# Altium footprint library Passive PCB.PcbLib: 33 footprints (part 1 of 3)
Each footprint in its own frame and in the unit in brackets; x right, y up, seen from the top. Pads: shape width x height; smd on the part's side, far side on the other; paste and mask are expansions set on the pad; w line width, h text height; cw(c..) or ccw(c..) is an arc to the next point about the centre after c.
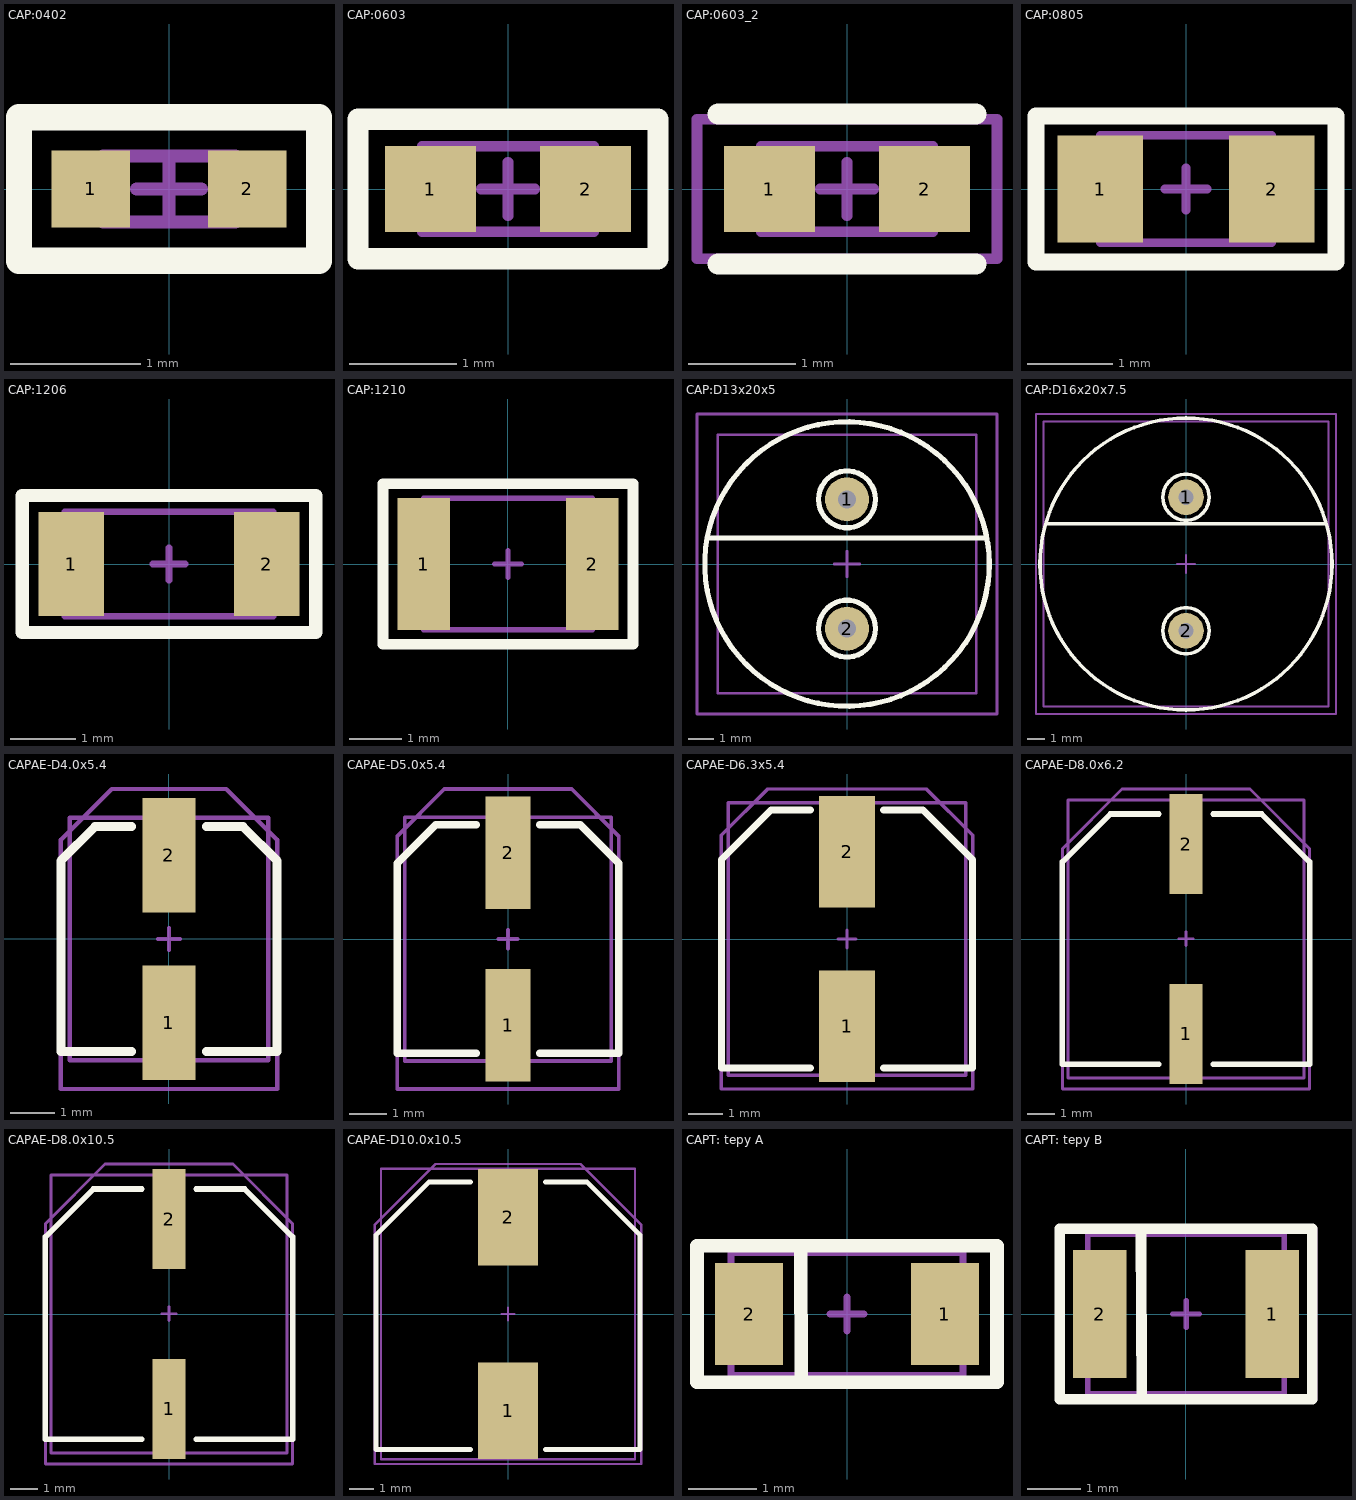
[diagram p0: the footprints below, top view; thin cyan lines are the x and y axes]

## CAP:0402 [mm]
pads (2):
  rect 0.6x0.59 smd: 1(-0.6,0) 2(0.6,0)
Top Overlay:
  lines w0.2: -1.15,-0.55 -1.15,0.55 1.15,0.55 1.15,-0.55 -1.15,-0.55
Top Assy:
  lines w0.1: -0.507,-0.254 0.508,-0.254 0.508,0.254 ; -0.508,-0.254 -0.508,0.254 ; -0.508,-0.254 -0.507,-0.254 ; -0.508,0.254 -0.507,0.254 ; -0.507,0.254 0.508,0.254 ; 0.508,0.254 0.508,0.254
Border:
  lines w0.1: -0.25,0 0.25,0 ; 0,-0.25 0,0.25 ; -1.15,-0.55 -1.15,0.55 1.15,0.55 1.15,-0.55 -1.15,-0.55
3D body "Ceramic_Capacitor_0402_h20mil.step": height 0.52, standoff 0.01, extent -0.508,-0.254 0.508,0.254

## CAP:0603 [mm]
pads (2):
  rect 0.85x0.8 smd: 1(-0.725,0) 2(0.725,0)
Top Overlay:
  lines w0.2: -1.4,-0.65 -1.4,0.65 1.4,0.65 1.4,-0.65 -1.4,-0.65
Top Assy:
  lines w0.1: -0.8,-0.4 -0.8,0.4 0.8,0.4 0.8,-0.4 -0.8,-0.4
Border:
  lines w0.1: -0.25,0 0.25,0 ; 0,-0.25 0,0.25 ; -1.4,-0.65 -1.4,0.65 1.4,0.65 1.4,-0.65 -1.4,-0.65
3D body "Ceramic_Capacitor_0603_h32mil.step": height 0.81, standoff 0.01, extent -0.8,-0.4 0.8,0.4

## CAP:0603_2 [mm]
pads (2):
  rect 0.85x0.8 smd: 1(-0.725,0) 2(0.725,0)
Top Overlay:
  lines w0.2: -1.2,-0.7 1.2,-0.7 ; -1.2,0.7 1.2,0.7
Top Assy:
  lines w0.1: -0.8,-0.4 -0.8,0.4 0.8,0.4 0.8,-0.4 -0.8,-0.4
Border:
  lines w0.1: -0.25,0 0.25,0 ; 0,-0.25 0,0.25 ; -1.4,-0.65 1.4,-0.65 1.4,0.65 -1.4,0.65 -1.4,-0.65
3D body "Ceramic_Capacitor_0603_h32mil.step": height 0.81, standoff 0.01, extent -0.8,-0.4 0.8,0.4

## CAP:0805 [mm]
pads (2):
  rect 1x1.25 smd: 1(-1,0) 2(1,0)
Top Overlay:
  lines w0.2: -1.75,-0.85 -1.75,0.85 1.75,0.85 1.75,-0.85 -1.75,-0.85
Top Assy:
  lines w0.1: -1,-0.625 -1,0.625 1,0.625 1,-0.625 -1,-0.625
Border:
  lines w0.1: -0.25,0 0.25,0 ; 0,-0.25 0,0.25 ; -1.75,-0.85 -1.75,0.85 1.75,0.85 1.75,-0.85 -1.75,-0.85
3D body "Ceramic_Capacitor_0805_h24mil.step": height 0.61, standoff 0.01, extent -1,-0.625 1,0.625

## CAP:1206 [mm]
pads (2):
  rect 1x1.6 smd: 1(-1.5,0) 2(1.5,0)
Top Overlay:
  lines w0.2: -2.25,-1.05 -2.25,1.05 2.25,1.05 2.25,-1.05 -2.25,-1.05
Top Assy:
  lines w0.1: -1.6,-0.8 1.6,-0.8 1.6,0.8 -1.6,0.8 -1.6,-0.8
Border:
  lines w0.1: -0.25,0 0.25,0 ; 0,-0.25 0,0.25 ; -2.25,-1.05 -2.25,1.05 2.25,1.05 2.25,-1.05 -2.25,-1.05
3D body "Ceramic_Capacitor_1206_h32mil.step": height 0.81, standoff 0.01, extent -1.6,-0.8 1.6,0.8

## CAP:1210 [mm]
pads (2):
  rect 1x2.5 smd: 1(-1.6,0) 2(1.6,0)
Top Overlay:
  lines w0.2: -2.375,-1.525 -2.375,1.525 2.375,1.525 2.375,-1.525 -2.375,-1.525
3D model:
  lines w0.1: -1.6,-1.25 -1.6,1.25 1.6,1.25 1.6,-1.25 -1.6,-1.25
Border:
  lines w0.1: -0.25,0 0.25,0 ; 0,-0.25 0,0.25 ; -2.375,-1.525 -2.375,1.525 2.375,1.525 2.375,-1.525 -2.375,-1.525
3D body "Ceramic_Capacitor_1210_h38mil.step": height 0.96, standoff 0.01, extent -1.6,-1.25 1.6,1.25

## CAP:D13x20x5 [mm]
pads (2):
  round 1.7 hole 0.7: 1(0,2.5) 2(0,-2.5)
Top Overlay:
  circle w0.2: c0,0 r5.5
  circle w0.2: c0,2.5 r1.1
  circle w0.2: c0,-2.5 r1.1
  lines w0.2: -5.3,1 5.3,1
Top Assy:
  lines w0.1: -5,-5 5,-5 5,5 -5,5 -5,-5
Border:
  lines w0.1: -0.5,0 0.5,0 ; 0,-0.5 0,0.5 ; -5.8,-5.8 5.8,-5.8 5.8,5.8 -5.8,5.8 -5.8,-5.8
3D body "User Library-Cap-EL(10x16-5)T.step": height 16.5, standoff -2.5, extent -4.997,-5 4.997,5.002

## CAP:D16x20x7.5 [mm]
pads (2):
  round 2 hole 0.85: 1(0,3.75) 2(0,-3.75)
Top Overlay:
  circle w0.2: c0,0 r8.2
  circle w0.2: c0,3.75 r1.3
  circle w0.2: c0,-3.75 r1.3
  lines w0.2: -7.875,2.25 7.875,2.25
Top Assy:
  lines w0.1: -8,-8 -8,8 8,8 8,-8 -8,-8
Border:
  lines w0.1: -0.5,0 0.5,0 ; 0,-0.5 0,0.5 ; -8.425,-8.425 -8.425,8.425 8.425,8.425 8.425,-8.425 -8.425,-8.425
3D body "User Library-Cap-EL(16x26-7_5).step": height 26.1, standoff -4.2, extent -7.997,-8 7.997,8.002

## CAPAE-D4.0x5.4 [mm]
pads (2):
  rect 1.2x2.6 smd: 1(0,-1.9)
  rect 1.2x2.6 smd mask+0.102: 2(0,1.9)
Top Overlay:
  lines w0.2: -0.85,-2.55 -2.45,-2.55 -2.45,1.775 -1.675,2.55 -0.85,2.55 ; 0.85,-2.55 2.45,-2.55 2.45,1.775 1.675,2.55 0.85,2.55
Top Assy:
  lines w0.1: -2.25,-2.75 2.25,-2.75 2.25,2.75 -2.25,2.75 -2.25,-2.75
Border:
  lines w0.1: -0.25,0 0.25,0 ; 0,-0.25 0,0.25 ; -2.45,-3.4 -2.45,2.25 -1.3,3.4 1.3,3.4 2.45,2.25 2.45,-3.4 -2.45,-3.4
3D body "CAPAE-D4.0x5.4.stp": height 5.5, standoff 0, extent -2.25,-2.75 2.25,2.75

## CAPAE-D5.0x5.4 [mm]
pads (2):
  rect 1.2x3 smd: 1(0,-2.3)
  rect 1.2x3 smd mask+0.102: 2(0,2.3)
Top Overlay:
  lines w0.2: -0.85,-3.05 -2.95,-3.05 -2.95,2.025 -1.925,3.05 -0.85,3.05 ; 0.85,-3.05 2.95,-3.05 2.95,2.025 1.925,3.05 0.85,3.05
Top Assy:
  lines w0.1: -2.75,-3.25 2.75,-3.25 2.75,3.25 -2.75,3.25 -2.75,-3.25
Border:
  lines w0.1: -0.25,0 0.25,0 ; 0,-0.25 0,0.25 ; -2.95,-4 -2.95,2.75 -1.7,4 1.7,4 2.95,2.75 2.95,-4 -2.95,-4
3D body "CAPAE-D5.0x5.4.stp": height 5.5, standoff 0, extent -2.75,-3.25 2.75,3.25

## CAPAE-D6.3x5.4 [mm]
pads (2):
  rect 1.6x3.2 smd: 1(0,-2.5)
  rect 1.6x3.2 smd mask+0.102: 2(0,2.5)
Top Overlay:
  lines w0.2: -1.05,-3.701 -3.6,-3.701 -3.6,2.275 -2.175,3.7 -1.05,3.7 ; 1.05,-3.701 3.6,-3.701 3.6,2.275 2.175,3.7 1.05,3.7
Top Assy:
  lines w0.1: -3.4,-3.9 3.4,-3.9 3.4,3.9 -3.4,3.9 -3.4,-3.9
Border:
  lines w0.1: -0.25,0 0.25,0 ; 0,-0.25 0,0.25 ; -3.6,-4.3 3.6,-4.3 3.6,2.975 2.275,4.3 -2.275,4.3 -3.6,2.975 -3.6,-4.3
3D body "CAPAE-D6.3x5.4.stp": height 5.5, standoff 0, extent -3.4,-3.9 3.4,3.9

## CAPAE-D8.0x6.2 [mm]
pads (2):
  rect 1.2x3.6 smd: 1(0,-3.413)
  rect 1.2x3.6 smd mask+0.102: 2(0,3.413)
Top Overlay:
  lines w0.2: -0.975,-4.503 -4.45,-4.503 -4.45,2.775 -2.725,4.5 -0.975,4.5 ; 0.975,-4.503 4.45,-4.503 4.45,2.775 2.725,4.5 0.975,4.5
Top Assy:
  lines w0.1: -4.25,-5 -4.25,5 4.25,5 4.25,-5 -4.25,-5
Border:
  lines w0.1: -0.25,0.013 0.25,0.013 ; 0,-0.237 0,0.263 ; -4.45,-5.4 4.45,-5.4 4.45,3.25 2.3,5.4 -2.3,5.4 -4.45,3.25 -4.45,-5.4
3D body "CAPAE-D8.0x6.2.stp": height 6.5, standoff 0, extent -4.25,-4.75 4.25,4.75

## CAPAE-D8.0x10.5 [mm]
pads (2):
  rect 1.2x3.6 smd: 1(0,-3.413)
  rect 1.2x3.6 smd mask+0.102: 2(0,3.413)
Top Overlay:
  lines w0.2: -0.975,-4.503 -4.45,-4.503 -4.45,2.775 -2.725,4.5 -0.975,4.5 ; 0.975,-4.503 4.45,-4.503 4.45,2.775 2.725,4.5 0.975,4.5
Top Assy:
  lines w0.1: -4.25,-5 4.25,-5 4.25,5 -4.25,5 -4.25,-5
Border:
  lines w0.1: -0.25,0.013 0.25,0.013 ; 0,-0.237 0,0.263 ; -4.45,-5.4 -4.45,3.25 -2.3,5.4 2.3,5.4 4.45,3.25 4.45,-5.4 -4.45,-5.4
3D body "CAPAE-D8.0x10.2.stp": height 10.5, standoff 0, extent -4.25,-5 4.25,5

## CAPAE-D10.0x10.5 [mm]
pads (2):
  rect 2.5x4 smd: 1(0,-4) 2(0,4)
Top Overlay:
  lines w0.2: -1.55,-5.6 -5.45,-5.6 -5.45,3.275 -3.275,5.45 -1.55,5.45 ; 1.55,-5.6 5.45,-5.6 5.45,3.275 3.275,5.45 1.55,5.45
3D model:
  lines w0.1: -5.25,-6 -5.25,6 5.25,6 5.25,-6 -5.25,-6
Border:
  lines w0.1: -0.25,0 0.25,0 ; 0,-0.25 0,0.25 ; -5.5,-6.2 -5.5,3.7 -3,6.2 3,6.2 5.5,3.7 5.5,-6.2 -5.5,-6.2
3D body "CAPAE-D10.0x10.2.stp": height 10.5, standoff 0, extent -5.25,-6 5.25,6

## CAPT: tepy A [mm]
pads (2):
  rect 1x1.5 smd: 1(1.436,0) 2(-1.436,0)
Top Overlay:
  lines w0.2: -0.678,0.95 -0.67,-0.95 ; -2.2,-1 2.2,-1 2.2,1 -2.2,1 -2.2,-1
Top Assy:
  lines w0.1: -1.7,-0.9 1.7,-0.9 1.7,0.9 -1.7,0.9 -1.7,-0.9
Border:
  lines w0.1: -0.25,0 0.25,0 ; 0,-0.25 0,0.25 ; -2.2,-1 -2.2,1 2.2,1 2.2,-1 -2.2,-1
3D body "CAPM-TANTA-BK.stp": height 1.8, standoff 0, extent -1.7,-0.9 1.7,0.9

## CAPT: tepy B [mm]
pads (2):
  rect 1x2.4 smd: 1(1.621,0) 2(-1.621,0)
Top Overlay:
  lines w0.2: -0.847,1.575 -0.832,-1.575 ; -2.375,-1.6 -2.375,1.6 2.375,1.6 2.375,-1.6 -2.375,-1.6
Top Assy:
  lines w0.1: -1.85,-1.5 -1.85,1.5 1.85,1.5 1.85,-1.5 -1.85,-1.5
Border:
  lines w0.1: -0.248,0 0.252,0 ; 0.002,-0.25 0.002,0.25 ; -2.375,-1.6 2.425,-1.6 2.425,1.6 -2.375,1.6 -2.375,-1.6
3D body "CAPM-TANTB-BK.stp": height 2.1, standoff 0, extent -1.85,-1.5 1.85,1.5